# EAGLE library part IMS-C004 (library Transputers)
C004 peripheral INMOS static programmable 32-in and 32-out transputer's OS-links routing switch. M = Military version to MIL-STD-883. Source: The Transputer Databook 1989 and 1992 INMOS/SGS-Thomson Arto Kyyhkynen, artoky@dlc.fi
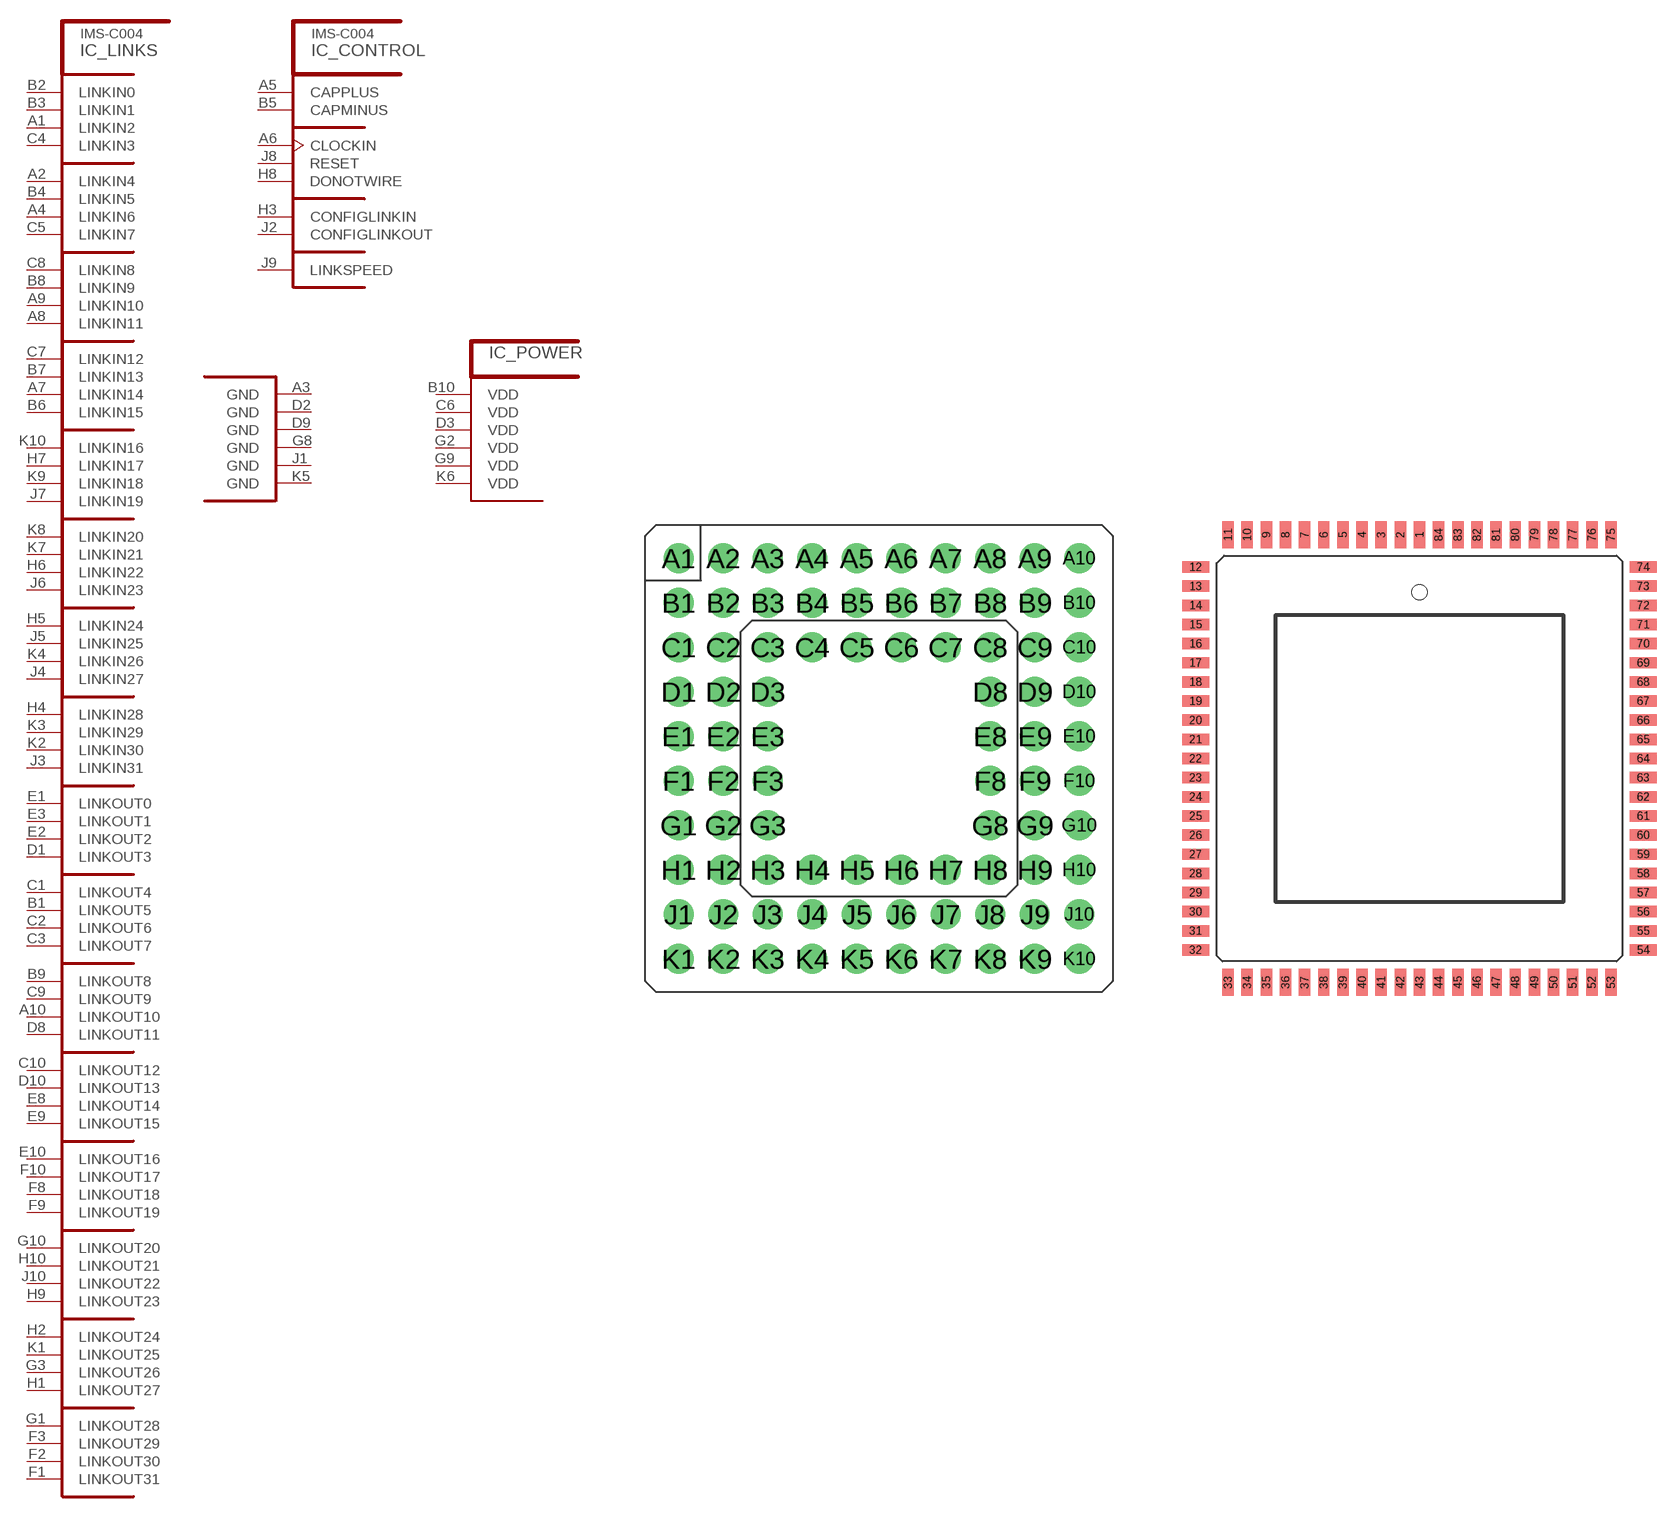
[diagram p1: symbol with the pads of PGA84; footprints PGA84, CLCC84]

Designator prefix IC; gates _CONTROL=C004CONTROL _LINKS=C004LINK _POWER=C004_POWER

## IMS-C004M20G, IMS-C004S20G  [PGA84]
A1  _LINKS:LINKIN2  in
A2  _LINKS:LINKIN4  in
A3  _POWER:GND  pwr
A4  _LINKS:LINKIN6  in
A5  _CONTROL:CAPPLUS  pas
A6  _CONTROL:CLOCKIN  in
A7  _LINKS:LINKIN14  in
A8  _LINKS:LINKIN11  in
A9  _LINKS:LINKIN10  in
A10  _LINKS:LINKOUT10  out
B1  _LINKS:LINKOUT5  out
B2  _LINKS:LINKIN0  in
B3  _LINKS:LINKIN1  in
B4  _LINKS:LINKIN5  in
B5  _CONTROL:CAPMINUS  pas
B6  _LINKS:LINKIN15  in
B7  _LINKS:LINKIN13  in
B8  _LINKS:LINKIN9  in
B9  _LINKS:LINKOUT8  out
B10  _POWER:VDD  pwr
C1  _LINKS:LINKOUT4  out
C2  _LINKS:LINKOUT6  out
C3  _LINKS:LINKOUT7  out
C4  _LINKS:LINKIN3  in
C5  _LINKS:LINKIN7  in
C6  _POWER:VDD  pwr
C7  _LINKS:LINKIN12  in
C8  _LINKS:LINKIN8  in
C9  _LINKS:LINKOUT9  out
C10  _LINKS:LINKOUT12  out
D1  _LINKS:LINKOUT3  out
D2  _POWER:GND  pwr
D3  _POWER:VDD  pwr
D8  _LINKS:LINKOUT11  out
D9  _POWER:GND  pwr
D10  _LINKS:LINKOUT13  out
E1  _LINKS:LINKOUT0  out
E2  _LINKS:LINKOUT2  out
E3  _LINKS:LINKOUT1  out
E8  _LINKS:LINKOUT14  out
E9  _LINKS:LINKOUT15  out
E10  _LINKS:LINKOUT16  out
F1  _LINKS:LINKOUT31  out
F2  _LINKS:LINKOUT30  out
F3  _LINKS:LINKOUT29  out
F8  _LINKS:LINKOUT18  out
F9  _LINKS:LINKOUT19  out
F10  _LINKS:LINKOUT17  out
G1  _LINKS:LINKOUT28  out
G2  _POWER:VDD  pwr
G3  _LINKS:LINKOUT26  out
G8  _POWER:GND  pwr
G9  _POWER:VDD  pwr
G10  _LINKS:LINKOUT20  out
H1  _LINKS:LINKOUT27  out
H2  _LINKS:LINKOUT24  out
H3  _CONTROL:CONFIGLINKIN  in
H4  _LINKS:LINKIN28  in
H5  _LINKS:LINKIN24  in
H6  _LINKS:LINKIN22  in
H7  _LINKS:LINKIN17  in
H8  _CONTROL:DONOTWIRE  nc
H9  _LINKS:LINKOUT23  out
H10  _LINKS:LINKOUT21  out
J1  _POWER:GND  pwr
J2  _CONTROL:CONFIGLINKOUT  out
J3  _LINKS:LINKIN31  in
J4  _LINKS:LINKIN27  in
J5  _LINKS:LINKIN25  in
J6  _LINKS:LINKIN23  in
J7  _LINKS:LINKIN19  in
J8  _CONTROL:RESET  in
J9  _CONTROL:LINKSPEED  in
J10  _LINKS:LINKOUT22  out
K1  _LINKS:LINKOUT25  out
K2  _LINKS:LINKIN30  in
K3  _LINKS:LINKIN29  in
K4  _LINKS:LINKIN26  in
K5  _POWER:GND  pwr
K6  _POWER:VDD  pwr
K7  _LINKS:LINKIN21  in
K8  _LINKS:LINKIN20  in
K9  _LINKS:LINKIN18  in
K10  _LINKS:LINKIN16  in

## IMS-C004M20Q  [CLCC84]
1  _LINKS:LINKOUT31  out
2  _LINKS:LINKOUT30  out
3  _LINKS:LINKOUT29  out
4  _LINKS:LINKOUT28  out
5  _LINKS:LINKOUT27  out
6  _POWER:VDD  pwr
7  _POWER:GND  pwr
8  _LINKS:LINKOUT26  out
9  _LINKS:LINKOUT25  out
10  _LINKS:LINKOUT24  out
11  _CONTROL:CONFIGLINKOUT  out
12  _CONTROL:CONFIGLINKIN  in
13  _LINKS:LINKIN31  in
14  _LINKS:LINKIN30  in
15  _LINKS:LINKIN29  in
16  _LINKS:LINKIN28  in
17  _LINKS:LINKIN27  in
18  _LINKS:LINKIN26  in
19  _LINKS:LINKIN25  in
20  _LINKS:LINKIN24  in
21  _POWER:GND  pwr
22  _POWER:VDD  pwr
23  _LINKS:LINKIN23  in
24  _LINKS:LINKIN22  in
25  _LINKS:LINKIN21  in
26  _LINKS:LINKIN20  in
27  _LINKS:LINKIN19  in
28  _LINKS:LINKIN18  in
29  _LINKS:LINKIN17  in
30  _LINKS:LINKIN16  in
31  _CONTROL:RESET  in
32  _CONTROL:LINKSPEED  in
33  _CONTROL:DONOTWIRE  nc
34  _LINKS:LINKOUT23  out
35  _LINKS:LINKOUT22  out
36  _LINKS:LINKOUT21  out
37  _POWER:GND  pwr
38  _POWER:VDD  pwr
39  _LINKS:LINKOUT20  out
40  _LINKS:LINKOUT19  out
41  _LINKS:LINKOUT18  out
42  _LINKS:LINKOUT17  out
43  _LINKS:LINKOUT16  out
44  _LINKS:LINKOUT15  out
45  _LINKS:LINKOUT14  out
46  _LINKS:LINKOUT13  out
47  _LINKS:LINKOUT12  out
48  _POWER:GND  pwr
49  _POWER:VDD  pwr
50  _LINKS:LINKOUT11  out
51  _LINKS:LINKOUT10  out
52  _LINKS:LINKOUT9  out
53  _LINKS:LINKOUT8  out
54  _LINKS:LINKIN8  in
55  _LINKS:LINKIN9  in
56  _LINKS:LINKIN10  in
57  _LINKS:LINKIN11  in
58  _LINKS:LINKIN12  in
59  _LINKS:LINKIN13  in
60  _LINKS:LINKIN14  in
61  _LINKS:LINKIN15  in
62  _POWER:VDD  pwr
63  _CONTROL:CLOCKIN  in
64  _CONTROL:CAPPLUS  pas
65  _CONTROL:CAPMINUS  pas
66  _LINKS:LINKIN7  in
67  _LINKS:LINKIN6  in
68  _POWER:GND  pwr
69  _LINKS:LINKIN5  in
70  _LINKS:LINKIN4  in
71  _LINKS:LINKIN3  in
72  _LINKS:LINKIN2  in
73  _LINKS:LINKIN1  in
74  _LINKS:LINKIN0  in
75  _LINKS:LINKOUT7  out
76  _LINKS:LINKOUT6  out
77  _LINKS:LINKOUT5  out
78  _LINKS:LINKOUT4  out
79  _POWER:VDD  pwr
80  _POWER:GND  pwr
81  _LINKS:LINKOUT3  out
82  _LINKS:LINKOUT2  out
83  _LINKS:LINKOUT1  out
84  _LINKS:LINKOUT0  out

## Footprint PGA84 (pad centres in mm)
Ceramic Pin Grid Array INMOS
drill 1.143 pad 1.676 round: A1 -11.43,11.43; A2 -8.89,11.43; A3 -6.35,11.43; A4 -3.81,11.43; A5 -1.27,11.43; A6 1.27,11.43; A7 3.81,11.43; A8 6.35,11.43; A9 8.89,11.43; A10 11.43,11.43; B1 -11.43,8.89; B2 -8.89,8.89; B3 -6.35,8.89; B4 -3.81,8.89; B5 -1.27,8.89; B6 1.27,8.89; B7 3.81,8.89; B8 6.35,8.89; B9 8.89,8.89; B10 11.43,8.89; C1 -11.43,6.35; C2 -8.89,6.35; C3 -6.35,6.35; C4 -3.81,6.35; C5 -1.27,6.35; C6 1.27,6.35; C7 3.81,6.35; C8 6.35,6.35; C9 8.89,6.35; C10 11.43,6.35; D1 -11.43,3.81; D2 -8.89,3.81; D3 -6.35,3.81; D8 6.35,3.81; D9 8.89,3.81; D10 11.43,3.81; E1 -11.43,1.27; E2 -8.89,1.27; E3 -6.35,1.27; E8 6.35,1.27; E9 8.89,1.27; E10 11.43,1.27; F1 -11.43,-1.27; F2 -8.89,-1.27; F3 -6.35,-1.27; F8 6.35,-1.27; F9 8.89,-1.27; F10 11.43,-1.27; G1 -11.43,-3.81; G2 -8.89,-3.81; G3 -6.35,-3.81; G8 6.35,-3.81; G9 8.89,-3.81; G10 11.43,-3.81; H1 -11.43,-6.35; H2 -8.89,-6.35; H3 -6.35,-6.35; H4 -3.81,-6.35; H5 -1.27,-6.35; H6 1.27,-6.35; H7 3.81,-6.35; H8 6.35,-6.35; H9 8.89,-6.35; H10 11.43,-6.35; J1 -11.43,-8.89; J2 -8.89,-8.89; J3 -6.35,-8.89; J4 -3.81,-8.89; J5 -1.27,-8.89; J6 1.27,-8.89; J7 3.81,-8.89; J8 6.35,-8.89; J9 8.89,-8.89; J10 11.43,-8.89; K1 -11.43,-11.43; K2 -8.89,-11.43; K3 -6.35,-11.43; K4 -3.81,-11.43; K5 -1.27,-11.43; K6 1.27,-11.43; K7 3.81,-11.43; K8 6.35,-11.43; K9 8.89,-11.43; K10 11.43,-11.43

## Footprint CLCC84 (pad centres in mm)
Ceramic Quad Cerpack
smd 0.76 x 1.8: 1 0,14.845; 2 -1.27,14.845; 3 -2.54,14.845; 4 -3.81,14.845; 5 -5.08,14.845; 6 -6.35,14.845; 7 -7.62,14.845; 8 -8.89,14.845; 9 -10.16,14.845; 10 -11.43,14.845; 11 -12.7,14.845; 33 -12.7,-14.845; 34 -11.43,-14.845; 35 -10.16,-14.845; 36 -8.89,-14.845; 37 -7.62,-14.845; 38 -6.35,-14.845; 39 -5.08,-14.845; 40 -3.81,-14.845; 41 -2.54,-14.845; 42 -1.27,-14.845; 43 0,-14.845; 44 1.27,-14.845; 45 2.54,-14.845; 46 3.81,-14.845; 47 5.08,-14.845; 48 6.35,-14.845; 49 7.62,-14.845; 50 8.89,-14.845; 51 10.16,-14.845; 52 11.43,-14.845; 53 12.7,-14.845; 75 12.7,14.845; 76 11.43,14.845; 77 10.16,14.845; 78 8.89,14.845; 79 7.62,14.845; 80 6.35,14.845; 81 5.08,14.845; 82 3.81,14.845; 83 2.54,14.845; 84 1.27,14.845
smd 1.8 x 0.76: 12 -14.845,12.7; 13 -14.845,11.43; 14 -14.845,10.16; 15 -14.845,8.89; 16 -14.845,7.62; 17 -14.845,6.35; 18 -14.845,5.08; 19 -14.845,3.81; 20 -14.845,2.54; 21 -14.845,1.27; 22 -14.845,0; 23 -14.845,-1.27; 24 -14.845,-2.54; 25 -14.845,-3.81; 26 -14.845,-5.08; 27 -14.845,-6.35; 28 -14.845,-7.62; 29 -14.845,-8.89; 30 -14.845,-10.16; 31 -14.845,-11.43; 32 -14.845,-12.7; 54 14.845,-12.7; 55 14.845,-11.43; 56 14.845,-10.16; 57 14.845,-8.89; 58 14.845,-7.62; 59 14.845,-6.35; 60 14.845,-5.08; 61 14.845,-3.81; 62 14.845,-2.54; 63 14.845,-1.27; 64 14.845,0; 65 14.845,1.27; 66 14.845,2.54; 67 14.845,3.81; 68 14.845,5.08; 69 14.845,6.35; 70 14.845,7.62; 71 14.845,8.89; 72 14.845,10.16; 73 14.845,11.43; 74 14.845,12.7